# EAGLE library part TPS560430X3FDBVR (library TexasInstruments)
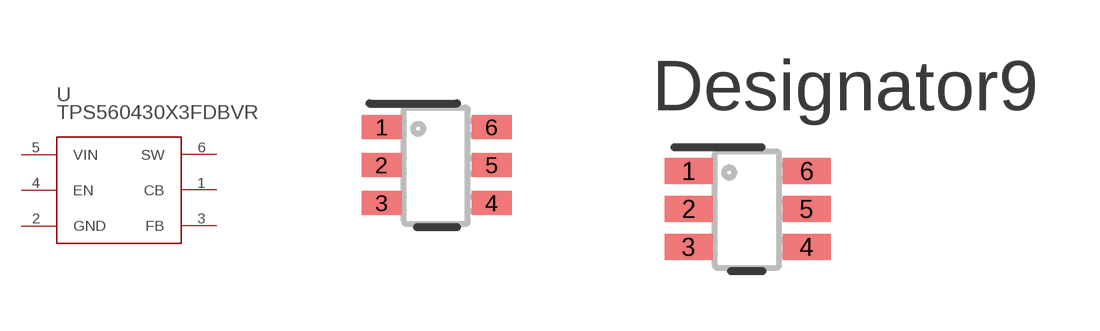
[diagram p6: symbol with the pads of DBV0006A_N; footprints DBV0006A_N, DBV0006A_M]

Designator prefix U

## TPS560430X3FDBVR (MANUFACTURER: Texas Instruments; PARTNUMBER: TPS560430YDBVR; REFDES: RefDes; TYPE: TYPE; VALUE: Value)  [DBV0006A_N]
1  CB  pwr
2  GND  pwr
3  FB  in
4  EN  in
5  VIN  pwr
6  SW  pwr

## TPS560430X3FDBVRDBV0006A_M (MANUFACTURER: Texas Instruments; PARTNUMBER: TPS560430YDBVR; REFDES: RefDes; TYPE: TYPE; VALUE: Value)  [DBV0006A_M]
Pads as for DBV0006A_N

## TPS560430X3FDBVRDBV0006A_L (MANUFACTURER: Texas Instruments; PARTNUMBER: TPS560430YDBVR; REFDES: RefDes; TYPE: TYPE; VALUE: Value)  [DBV0006A_L]
Pads as for DBV0006A_N

## Footprint DBV0006A_N (pad centres in mm)
smd 1 x 0.6: 1 -1.375,0.95; 2 -1.375,0; 3 -1.375,-0.95; 4 1.375,-0.95; 5 1.375,0; 6 1.375,0.95

## Footprint DBV0006A_M (pad centres in mm)
smd 1.2 x 0.65: 1 -1.475,0.95; 2 -1.475,0; 3 -1.475,-0.95; 4 1.475,-0.95; 5 1.475,0; 6 1.475,0.95

## Footprint DBV0006A_L (pad centres in mm)
smd 0.8 x 0.55: 1 -1.275,0.95; 2 -1.275,0; 3 -1.275,-0.95; 4 1.275,-0.95; 5 1.275,0; 6 1.275,0.95